# Altium footprint library SparkFun_IMU_Breakout_ICM-20948.PcbLib: 48 footprints (part 3 of 3)
Each footprint in its own frame and in the unit in brackets; x right, y up, seen from the top. Pads: shape width x height; smd on the part's side, far side on the other; paste and mask are expansions set on the pad; w line width, h text height; cw(c..) or ccw(c..) is an arc to the next point about the centre after c.
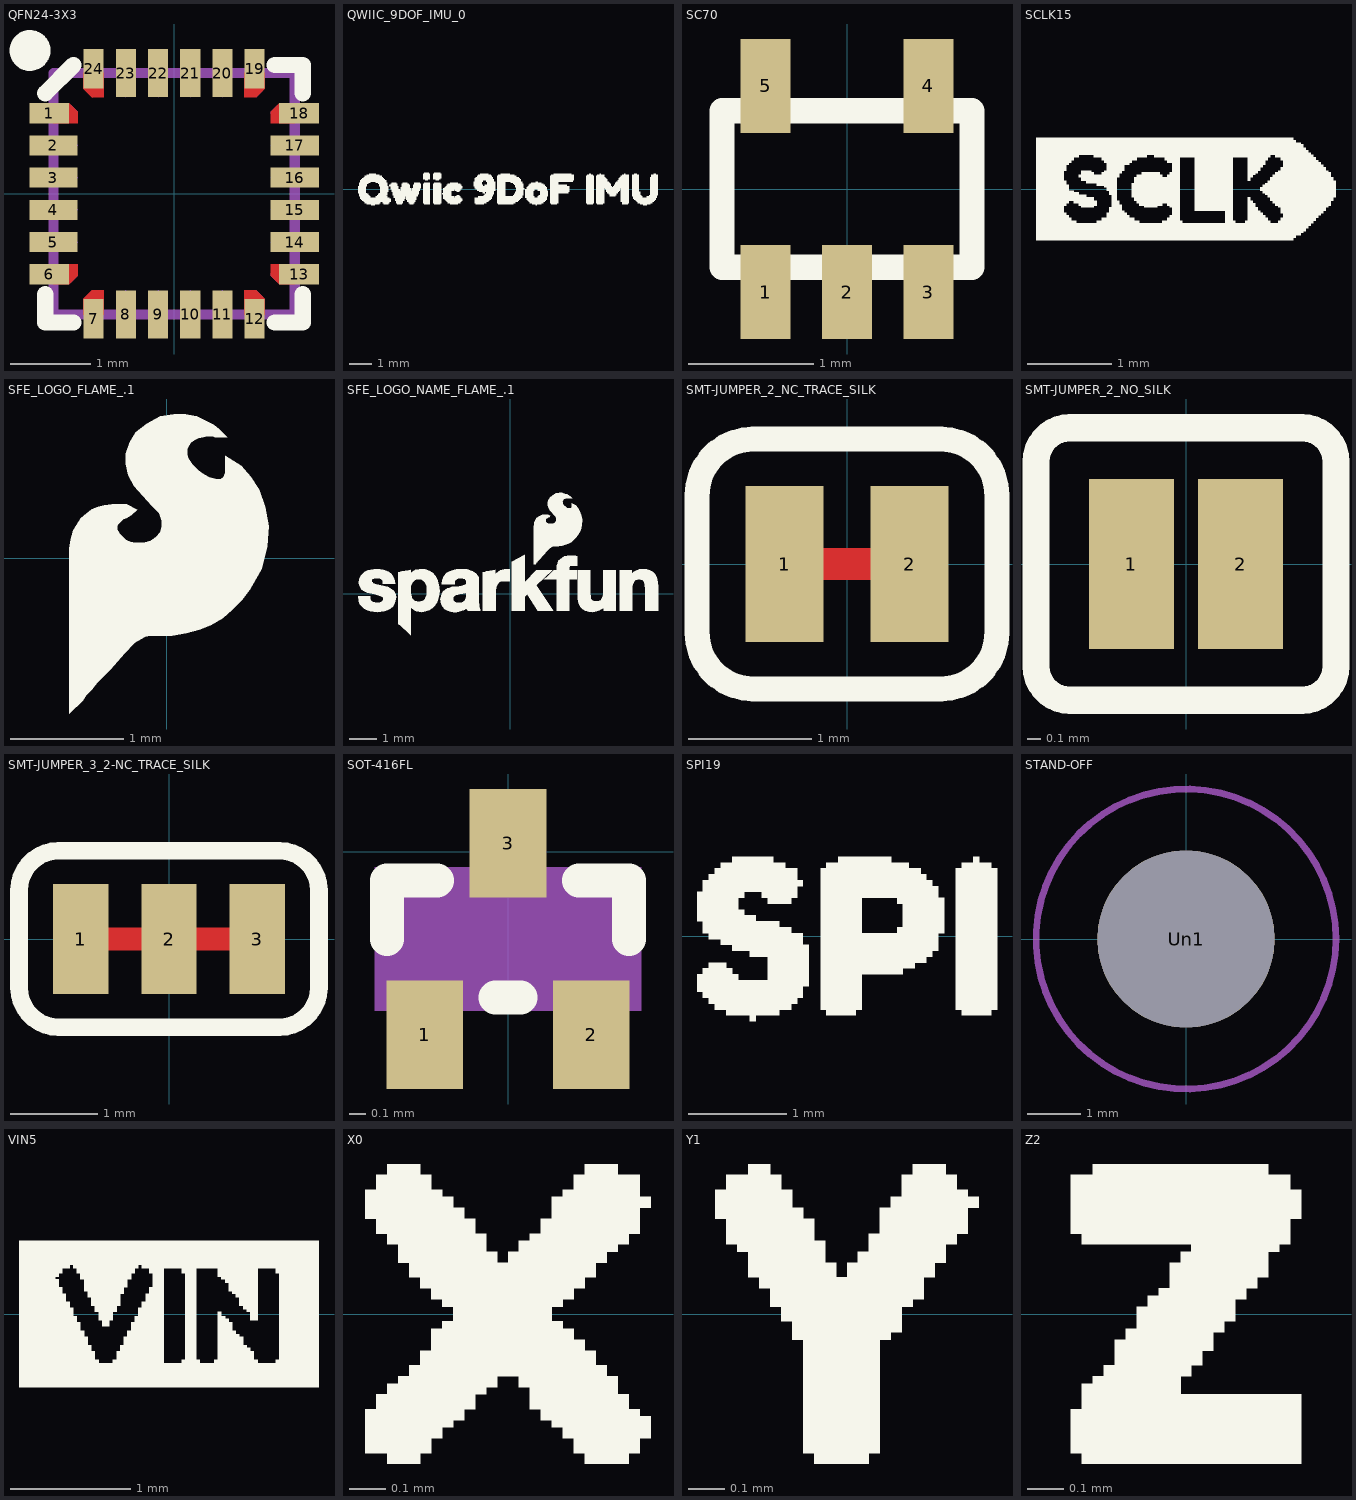
[diagram p2: the footprints below, top view; thin cyan lines are the x and y axes]

## QFN24-3X3 [mm]
pads (24):
  rect 0.495x0.25 smd: 1(-1.552,1) 6(-1.552,-1) 13(1.552,-1) 18(1.552,1)
  rect 0.6x0.25 smd: 2(-1.5,0.6) 3(-1.5,0.2) 4(-1.5,-0.2) 5(-1.5,-0.6) 14(1.5,-0.6) 15(1.5,-0.2) 16(1.5,0.2) 17(1.5,0.6)
  rect 0.25x0.495 smd: 7(-1,-1.552) 12(1,-1.552) 19(1,1.552) 24(-1,1.552)
  rect 0.25x0.6 smd: 8(-0.6,-1.5) 9(-0.2,-1.5) 10(0.2,-1.5) 11(0.6,-1.5) 20(0.6,1.5) 21(0.2,1.5) 22(-0.2,1.5) 23(-0.6,1.5)
F.Cu:
  region: 1.501,0.874 1.199,0.874 1.199,1.021 1.304,1.126 1.501,1.126
  region: 1.126,1.304 1.021,1.199 0.874,1.199 0.874,1.501 1.126,1.501
  region: -1.199,1.021 -1.199,0.874 -1.501,0.874 -1.501,1.126 -1.304,1.126
  region: -1.199,-1.021 -1.304,-1.126 -1.501,-1.126 -1.501,-0.874 -1.199,-0.874
  region: -0.874,1.199 -1.021,1.199 -1.126,1.304 -1.126,1.501 -0.874,1.501
  region: -0.874,-1.501 -1.126,-1.501 -1.126,-1.304 -1.021,-1.199 -0.874,-1.199
  region: 1.126,-1.304 1.126,-1.501 0.874,-1.501 0.874,-1.199 1.021,-1.199
  region: 1.501,-1.126 1.304,-1.126 1.199,-1.021 1.199,-0.874 1.501,-0.874
F.SilkS:
  circle w0.254: c-1.79,1.78 r0.127
  region: -1.693,1.877 -1.653,1.78 -1.693,1.683 -1.79,1.643 -1.887,1.683 -1.927,1.78 -1.887,1.877 -1.79,1.917
  lines w0.203: -1.6,-1.25 -1.6,-1.6 -1.25,-1.6 ; -1.6,1.25 -1.25,1.6 ; 1.25,-1.6 1.6,-1.6 1.6,-1.25 ; 1.25,1.6 1.6,1.6 1.6,1.25
F.Paste:
  region: 0.325,1.275 0.075,1.275 0.075,1.725 0.325,1.725
  region: -1.275,-0.325 -1.725,-0.325 -1.725,-0.075 -1.275,-0.075
  region: 1.725,0.875 1.275,0.875 1.275,1.125 1.725,1.125
  region: -0.875,-1.725 -1.125,-1.725 -1.125,-1.275 -0.875,-1.275
  region: -1.275,0.475 -1.725,0.475 -1.725,0.725 -1.275,0.725
  region: 0.725,1.275 0.475,1.275 0.475,1.725 0.725,1.725
  region: 1.725,-0.725 1.275,-0.725 1.275,-0.475 1.725,-0.475
  region: 1.125,1.275 0.875,1.275 0.875,1.725 1.125,1.725
  region: 1.725,-0.325 1.275,-0.325 1.275,-0.075 1.725,-0.075
  region: -0.075,1.275 -0.325,1.275 -0.325,1.725 -0.075,1.725
  region: 1.725,-1.125 1.275,-1.125 1.275,-0.875 1.725,-0.875
  region: -0.075,-1.725 -0.325,-1.725 -0.325,-1.275 -0.075,-1.275
  region: 1.725,0.475 1.275,0.475 1.275,0.725 1.725,0.725
  region: 0.725,-1.725 0.475,-1.725 0.475,-1.275 0.725,-1.275
  region: -1.275,0.075 -1.725,0.075 -1.725,0.325 -1.275,0.325
  region: -1.275,0.875 -1.725,0.875 -1.725,1.125 -1.275,1.125
  region: -1.275,-0.725 -1.725,-0.725 -1.725,-0.475 -1.275,-0.475
  region: -1.275,-1.125 -1.725,-1.125 -1.725,-0.875 -1.275,-0.875
  region: 0.325,-1.725 0.075,-1.725 0.075,-1.275 0.325,-1.275
  region: -0.475,1.275 -0.725,1.275 -0.725,1.725 -0.475,1.725
  region: -0.875,1.275 -1.125,1.275 -1.125,1.725 -0.875,1.725
  region: 1.125,-1.725 0.875,-1.725 0.875,-1.275 1.125,-1.275
  region: 1.725,0.075 1.275,0.075 1.275,0.325 1.725,0.325
  region: -0.475,-1.725 -0.725,-1.725 -0.725,-1.275 -0.475,-1.275
F.Mask:
  region: -1.099,-1.226 -1.203,-1.226 -1.203,-0.773 -1.099,-0.773
  region: -1.099,0.773 -1.203,0.773 -1.203,1.226 -1.099,1.226
  region: -0.773,-1.203 -1.226,-1.203 -1.226,-1.099 -0.773,-1.099
  region: -0.773,1.099 -1.226,1.099 -1.226,1.203 -0.773,1.203
  region: 1.226,1.099 0.773,1.099 0.773,1.203 1.226,1.203
  region: 1.203,0.773 1.099,0.773 1.099,1.226 1.203,1.226
  region: 1.203,-1.226 1.099,-1.226 1.099,-0.773 1.203,-0.773
  region: 1.226,-1.203 0.773,-1.203 0.773,-1.099 1.226,-1.099
F.Fab:
  region: -0.1,-1.3 -0.1,-1.5 -0.3,-1.5 -0.3,-1.3 -0.2,-1.2
  region: -1.2,0.2 -1.3,0.1 -1.5,0.1 -1.5,0.3 -1.3,0.3
  region: 1.5,0.1 1.3,0.1 1.2,0.2 1.3,0.3 1.5,0.3
  region: -0.1,1.3 -0.2,1.2 -0.3,1.3 -0.3,1.5 -0.1,1.5
  region: 0.7,1.3 0.6,1.2 0.5,1.3 0.5,1.5 0.7,1.5
  region: 1.5,-1.1 1.28,-1.1 1.2,-1.02 1.21,-0.964 1.246,-0.92 1.3,-0.9 1.5,-0.9
  region: 1.1,-1.28 1.1,-1.5 0.9,-1.5 0.9,-1.3 0.92,-1.246 0.964,-1.21 1.02,-1.2
  region: -0.5,-1.3 -0.5,-1.5 -0.7,-1.5 -0.7,-1.3 -0.6,-1.2
  region: -1.2,1.02 -1.21,0.964 -1.246,0.92 -1.3,0.9 -1.5,0.9 -1.5,1.1 -1.28,1.1
  region: 1.5,-0.3 1.3,-0.3 1.2,-0.2 1.3,-0.1 1.5,-0.1
  region: -1.2,0.6 -1.3,0.5 -1.5,0.5 -1.5,0.7 -1.3,0.7
  region: 0.3,1.3 0.2,1.2 0.1,1.3 0.1,1.5 0.3,1.5
  region: -1.2,-0.2 -1.3,-0.3 -1.5,-0.3 -1.5,-0.1 -1.3,-0.1
  region: -1.2,-0.6 -1.3,-0.7 -1.5,-0.7 -1.5,-0.5 -1.3,-0.5
  region: -1.246,-0.92 -1.21,-0.964 -1.2,-1.02 -1.28,-1.1 -1.5,-1.1 -1.5,-0.9 -1.3,-0.9
  region: -0.5,1.3 -0.6,1.2 -0.7,1.3 -0.7,1.5 -0.5,1.5
  region: 1.5,0.9 1.3,0.9 1.246,0.92 1.21,0.964 1.2,1.02 1.28,1.1 1.5,1.1
  region: -0.9,1.3 -0.964,1.21 -1.02,1.2 -1.1,1.28 -1.1,1.5 -0.9,1.5
  region: 1.5,-0.7 1.3,-0.7 1.2,-0.6 1.3,-0.5 1.5,-0.5
  region: 0.7,-1.3 0.7,-1.5 0.5,-1.5 0.5,-1.3 0.6,-1.2
  region: 1.5,0.5 1.3,0.5 1.2,0.6 1.3,0.7 1.5,0.7
  region: -0.964,-1.21 -0.9,-1.3 -0.9,-1.5 -1.1,-1.5 -1.1,-1.28 -1.02,-1.2
  region: 0.3,-1.3 0.3,-1.5 0.1,-1.5 0.1,-1.3 0.2,-1.2
  region: 1.1,1.28 1.02,1.2 0.964,1.21 0.92,1.246 0.9,1.3 0.9,1.5 1.1,1.5
  lines w0.127: -1.5,-1.5 1.5,-1.5 1.5,1.5 -1.5,1.5 -1.5,-1.5

## QWIIC_9DOF_IMU_0 [mm]
F.SilkS:
  drawing of 423 lines, arcs and shapes, not listed

## SC70 [mm]
pads (5):
  rect 0.4x0.75 smd: 1(-0.65,-0.825) 2(0,-0.825) 3(0.65,-0.825) 4(0.65,0.825) 5(-0.65,0.825)
F.SilkS:
  lines w0.203: -1,-0.625 -1,0.625 1,0.625 1,-0.625 -1,-0.625
F.Paste:
  region: -0.508,-1.168 -0.838,-1.168 -0.838,-0.483 -0.508,-0.483
  region: 0.165,-1.168 -0.165,-1.168 -0.165,-0.483 0.165,-0.483
  region: -0.45,0.45 -0.85,0.45 -0.85,1.2 -0.45,1.2
  region: 0.85,0.45 0.45,0.45 0.45,1.2 0.85,1.2
  region: 0.838,-1.168 0.508,-1.168 0.508,-0.483 0.838,-0.483
F.Fab:
  lines w0.127: -1,-0.625 1,-0.625 1,0.625 -1,0.625 -1,-0.625

## SCLK15 [mm]
F.SilkS:
  drawing of 176 lines, arcs and shapes, not listed

## SFE_LOGO_FLAME_.1 [mm]
F.SilkS:
  region: 0.27,1.255 0.417,1.182 0.462,1.148 0.539,1.071 0.428,1.071 0.408,1.081 0.362,1.081 0.325,1.072 0.279,1.063 0.247,1.046 0.215,1.022 0.2,1 0.192,0.984 0.185,0.963 0.185,0.914 0.192,0.885 0.227,0.833 0.282,0.778 0.319,0.75 0.346,0.732 0.38,0.715 0.452,0.697 0.471,0.697 0.486,0.702 0.506,0.722 0.512,0.734 0.519,0.755 0.519,0.908 0.662,0.818 0.748,0.722 0.822,0.605 0.874,0.449 0.905,0.281 0.895,0.103 0.843,-0.095 0.739,-0.282 0.666,-0.376 0.583,-0.459 0.5,-0.532 0.394,-0.595 0.289,-0.637 0.175,-0.668 0.05,-0.689 -0.14,-0.689 -0.19,-0.697 -0.279,-0.751 -0.375,-0.847 -0.495,-0.987 -0.615,-1.107 -0.665,-1.167 -0.713,-1.215 -0.743,-1.265 -0.861,-1.383 -0.861,0.081 -0.85,0.167 -0.828,0.244 -0.762,0.354 -0.706,0.399 -0.662,0.433 -0.604,0.456 -0.55,0.466 -0.486,0.477 -0.354,0.477 -0.259,0.429 -0.31,0.378 -0.358,0.354 -0.382,0.346 -0.43,0.298 -0.435,0.283 -0.435,0.255 -0.428,0.236 -0.413,0.213 -0.362,0.161 -0.322,0.146 -0.279,0.137 -0.208,0.137 -0.139,0.154 -0.089,0.187 -0.057,0.227 -0.041,0.275 -0.041,0.332 -0.066,0.398 -0.131,0.463 -0.212,0.554 -0.284,0.637 -0.339,0.735 -0.361,0.835 -0.361,0.925 -0.328,1.025 -0.272,1.115 -0.174,1.191 -0.056,1.255 0.064,1.277 0.171,1.277

## SFE_LOGO_NAME_FLAME_.1 [mm]
F.SilkS:
  drawing of 11 lines, arcs and shapes, not listed

## SMT-JUMPER_2_NC_TRACE_SILK [mil]
pads (2):
  rect 25x50 smd: 1(-20,0) 2(20,0)
F.Cu:
  region: 8,-5 -8,-5 -8,5 8,5
F.SilkS:
  lines w8: -48,-22 -48,22 cw(c-30,22) -30,40 30,40 cw(c30,22) 48,22 48,-22 cw(c30,-22) 30,-40 -30,-40 cw(c-30,-22) -48,-22
F.Mask:
  region: 10,-7.5 -10,-7.5 -10,7.5 10,7.5

## SMT-JUMPER_2_NO_SILK [mil]
pads (2):
  rect 25x50 smd: 1(-16,0) 2(16,0)
F.SilkS:
  lines w8: -44,-30 -44,30 cw(c-34,30) -34,40 34,40 cw(c34,30) 44,30 44,-30 cw(c34,-30) 34,-40 -34,-40 cw(c-34,-30) -44,-30

## SMT-JUMPER_3_2-NC_TRACE_SILK [mil]
pads (3):
  rect 25x50 smd: 1(-40,0) 2(0,0) 3(40,0)
F.Cu:
  region: 28,-5 12,-5 12,5 28,5
  region: -12,-5 -28,-5 -28,5 -12,5
F.SilkS:
  lines w8: -68,-22 -68,22 cw(c-50,22) -50,40 50,40 cw(c50,22) 68,22 68,-22 cw(c50,-22) 50,-40 -50,-40 cw(c-50,-22) -68,-22
F.Mask:
  region: 30,-7.5 -30,-7.5 -30,7.5 30,7.5

## SOT-416FL [mm]
pads (3):
  rect 0.46x0.65 smd: 1(-0.5,-1.1) 2(0.5,-1.1) 3(0,0.05)
F.SilkS:
  lines w0.203: -0.725,-0.525 -0.725,-0.175 -0.425,-0.175 ; -0.075,-0.875 0.075,-0.875 ; 0.425,-0.175 0.725,-0.175 0.725,-0.525
F.Fab:
  region: 0.8,-0.955 -0.8,-0.955 -0.8,-0.095 0.8,-0.095

## SPI19 [mm]
F.SilkS:
  drawing of 93 lines, arcs and shapes, not listed

## STAND-OFF [mil]
pads (1):
  round 130 hole 130: Un1(0,0)
F.CrtYd:
  circle w5: c0,0 r110

## VIN5 [mm]
F.SilkS:
  drawing of 165 lines, arcs and shapes, not listed

## X0 [mm]
F.SilkS:
  drawing of 44 lines, arcs and shapes, not listed

## Y1 [mm]
F.SilkS:
  region: 1.26,0.04 0.84,0.04 0.84,0.07 1.26,0.07
  region: 0.99,0.14 0.78,0.14 0.78,0.17 0.99,0.17
  region: 0.99,0.17 0.75,0.17 0.75,0.2 0.99,0.2
  region: 1.41,0.29 1.17,0.29 1.17,0.32 1.41,0.32
  region: 1.14,-0.34 0.93,-0.34 0.93,-0.31 1.14,-0.31
  region: 1.17,-0.07 0.9,-0.07 0.9,-0.04 1.17,-0.04
  region: 1.14,-0.22 0.93,-0.22 0.93,-0.19 1.14,-0.19
  region: 0.96,0.22 0.72,0.22 0.72,0.26 0.96,0.26
  region: 1.11,-0.41 0.96,-0.41 0.96,-0.38 1.11,-0.38
  region: 1.2,-0.02 0.87,-0.02 0.87,0.02 1.2,0.02
  region: 1.2,-0.05 0.9,-0.05 0.9,-0.02 1.2,-0.02
  region: 0.93,0.26 0.69,0.26 0.69,0.29 0.93,0.29
  region: 0.9,0.29 0.69,0.29 0.69,0.32 0.9,0.32
  region: 1.14,-0.29 0.93,-0.29 0.93,-0.26 1.14,-0.26
  region: 1.14,-0.31 0.93,-0.31 0.93,-0.28 1.14,-0.28
  region: 1.14,-0.17 0.93,-0.17 0.93,-0.14 1.14,-0.14
  region: 1.32,0.38 1.23,0.38 1.23,0.41 1.32,0.41
  region: 1.14,-0.14 0.93,-0.14 0.93,-0.1 1.14,-0.1
  region: 1.32,0.14 1.08,0.14 1.08,0.17 1.32,0.17
  region: 1.14,-0.26 0.93,-0.26 0.93,-0.22 1.14,-0.22
  region: 1.32,0.17 1.11,0.17 1.11,0.2 1.32,0.2
  region: 1.38,0.31 1.2,0.31 1.2,0.34 1.38,0.34
  region: 1.14,-0.38 0.93,-0.38 0.93,-0.34 1.14,-0.34
  region: 1.14,-0.2 0.93,-0.2 0.93,-0.17 1.14,-0.17
  region: 1.35,0.34 1.2,0.34 1.2,0.38 1.35,0.38
  region: 0.9,0.31 0.69,0.31 0.69,0.34 0.9,0.34
  region: 1.38,0.26 1.14,0.26 1.14,0.29 1.38,0.29
  region: 1.26,0.07 0.81,0.07 0.81,0.1 1.26,0.1
  region: 1.14,-0.1 0.93,-0.1 0.93,-0.07 1.14,-0.07
  region: 1.02,0.1 0.78,0.1 0.78,0.14 1.02,0.14
  region: 0.96,0.19 0.72,0.19 0.72,0.22 0.96,0.22
  region: 1.29,0.1 1.05,0.1 1.05,0.14 1.29,0.14
  region: 1.35,0.19 1.11,0.19 1.11,0.22 1.35,0.22
  region: 1.38,0.22 1.14,0.22 1.14,0.26 1.38,0.26
  region: 0.87,0.34 0.72,0.34 0.72,0.38 0.87,0.38
  region: 1.23,0.02 0.84,0.02 0.84,0.05 1.23,0.05
  region: 0.84,0.38 0.78,0.38 0.78,0.41 0.84,0.41

## Z2 [mm]
F.SilkS:
  region: 1.11,-0.07 0.87,-0.07 0.87,-0.04 1.11,-0.04
  region: 1.02,-0.22 0.75,-0.22 0.75,-0.19 1.02,-0.19
  region: 1.17,-0.02 0.9,-0.02 0.9,0.02 1.17,0.02
  region: 1.35,0.26 0.72,0.26 0.72,0.29 1.35,0.29
  region: 1.05,-0.17 0.81,-0.17 0.81,-0.14 1.05,-0.14
  region: 1.29,0.17 1.05,0.17 1.05,0.2 1.29,0.2
  region: 1.35,-0.29 0.72,-0.29 0.72,-0.26 1.35,-0.26
  region: 1.26,0.14 1.02,0.14 1.02,0.17 1.26,0.17
  region: 1.14,-0.05 0.9,-0.05 0.9,-0.02 1.14,-0.02
  region: 1.35,-0.34 0.72,-0.34 0.72,-0.31 1.35,-0.31
  region: 1.35,-0.41 0.75,-0.41 0.75,-0.38 1.35,-0.38
  region: 1.26,0.1 0.99,0.1 0.99,0.14 1.26,0.14
  region: 1.35,0.31 0.72,0.31 0.72,0.34 1.35,0.34
  region: 1.35,0.29 0.72,0.29 0.72,0.32 1.35,0.32
  region: 1.23,0.07 0.99,0.07 0.99,0.1 1.23,0.1
  region: 1.17,0.02 0.93,0.02 0.93,0.05 1.17,0.05
  region: 1.32,0.34 0.72,0.34 0.72,0.38 1.32,0.38
  region: 1.11,-0.1 0.84,-0.1 0.84,-0.07 1.11,-0.07
  region: 1.02,-0.2 0.78,-0.2 0.78,-0.17 1.02,-0.17
  region: 1.08,-0.14 0.84,-0.14 0.84,-0.1 1.08,-0.1
  region: 1.35,-0.38 0.72,-0.38 0.72,-0.34 1.35,-0.34
  region: 1.35,-0.31 0.72,-0.31 0.72,-0.28 1.35,-0.28
  region: 1.26,0.38 0.78,0.38 0.78,0.41 1.26,0.41
  region: 1.32,0.19 0.75,0.19 0.75,0.22 1.32,0.22
  region: 1.2,0.04 0.96,0.04 0.96,0.07 1.2,0.07
  region: 1.35,-0.26 0.75,-0.26 0.75,-0.22 1.35,-0.22
  region: 1.32,0.22 0.72,0.22 0.72,0.26 1.32,0.26